# Altium footprint library K-Contactor with auxiliary power.PCBLIB: 2 footprints
Each footprint in its own frame and in the unit in brackets; x right, y up, seen from the top. Pads: shape width x height; smd on the part's side, far side on the other; paste and mask are expansions set on the pad; w line width, h text height; cw(c..) or ccw(c..) is an arc to the next point about the centre after c.
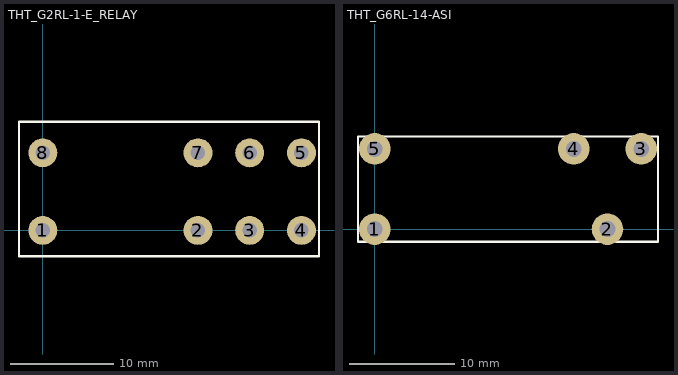
[diagram p0: the footprints below, top view; thin cyan lines are the x and y axes]

## THT_G2RL-1-E_RELAY [mm] "THT_G2RL-1-E_RELAY"
height 0.399
pads (8):
  round 2.8 hole 1.4: 1(0,0) 2(15,0) 3(20,0) 4(25,0) 5(25,7.5) 6(20,7.5) 7(15,7.5) 8(0,7.5)
Top Overlay:
  lines w0.2: -2.3,-2.5 26.7,-2.5 26.7,10.5 -2.3,10.5 -2.3,-2.5

## THT_G6RL-14-ASI [mm] "THT_G6RL-14-ASI"
height 12.3
pads (5):
  round 3 hole 1.5: 1(0,0) 2(22.1,0) 3(25.3,7.62) 4(18.9,7.62) 5(0,7.62)
Top Overlay:
  lines w0.2: -1.6,-1.2 26.9,-1.2 26.9,8.8 -1.6,8.8 -1.6,-1.2